# EAGLE library part MAX4781 (library parts)
High-Speed, Low-Voltage, 0.7Ω CMOS Analog Switches/Multiplexers Source: maximintegrated.com <http://datasheets.maximintegrated.com/en/ds/MAX4781-MAX4783.pdf>
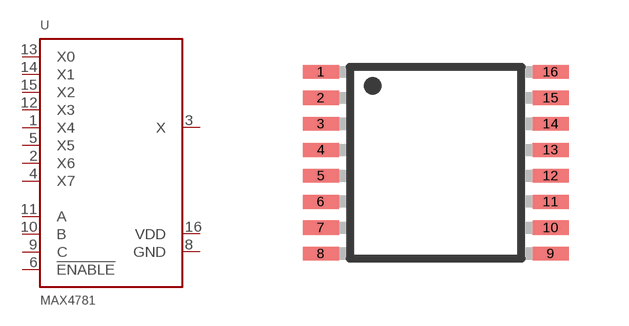
[diagram p5: symbol with the pads of TSSOP16; footprint TSSOP16]

Designator prefix U

## MAX4781EUE (RS: 786-1161)  [TSSOP16]
1  X4
2  X6
3  X
4  X7
5  X5
6  !ENABLE  in
8  GND  pwr
9  C  in
10  B  in
11  A  in
12  X3
13  X0
14  X1
15  X2
16  VDD  pwr

## Footprint TSSOP16 (pad centres in mm)
16-Lead Thin Shrink Small Outline Package [TSSOP] (RU-16) Source: 8x ADG1408_1409.pdf
smd 0.9 x 0.35: 1 -2.875,2.275; 2 -2.875,1.625; 3 -2.875,0.975; 4 -2.875,0.325; 5 -2.875,-0.325; 6 -2.875,-0.975; 7 -2.875,-1.625; 8 -2.875,-2.275; 9 2.875,-2.275; 10 2.875,-1.625; 11 2.875,-0.975; 12 2.875,-0.325; 13 2.875,0.325; 14 2.875,0.975; 15 2.875,1.625; 16 2.875,2.275